# Altium footprint library Q's常用电子元件.PcbLib: 69 footprints (part 3 of 5)
Each footprint in its own frame and in the unit in brackets; x right, y up, seen from the top. Pads: shape width x height; smd on the part's side, far side on the other; paste and mask are expansions set on the pad; w line width, h text height; cw(c..) or ccw(c..) is an arc to the next point about the centre after c.
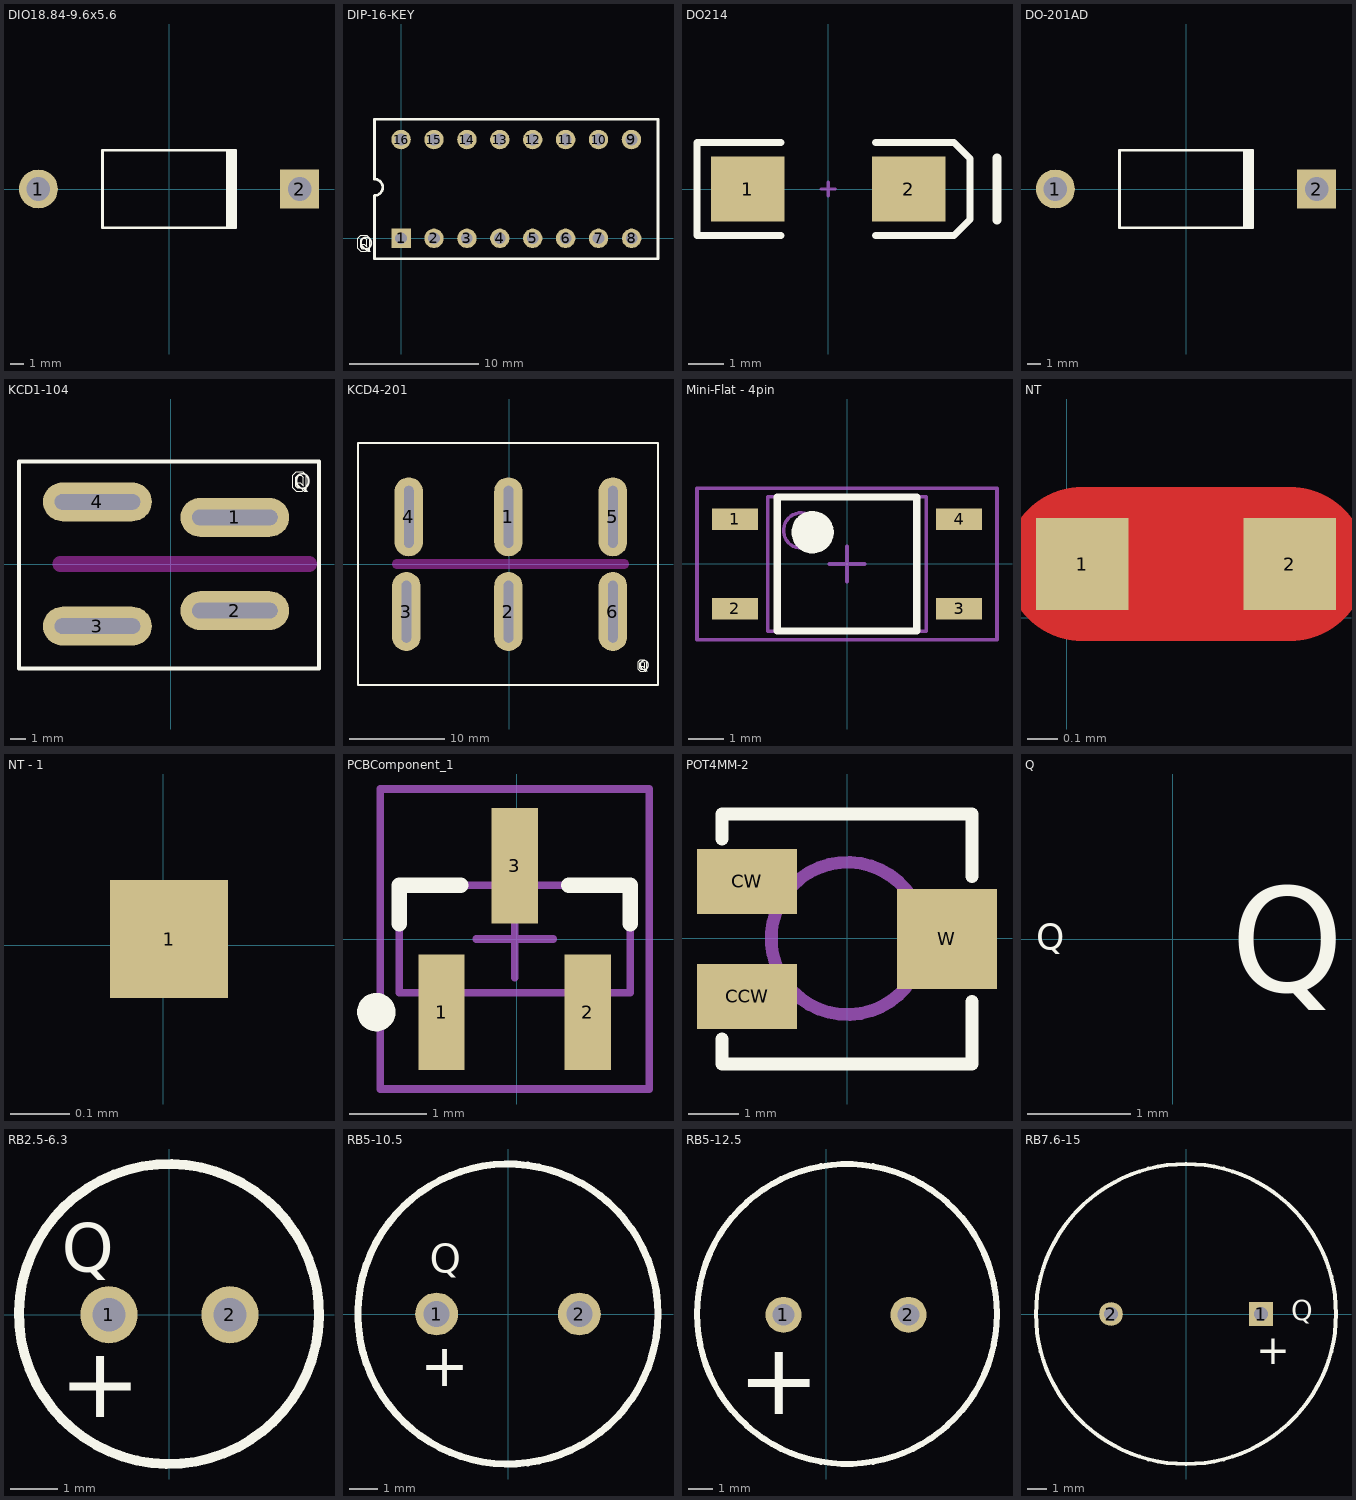
[diagram p2: the footprints below, top view; thin cyan lines are the x and y axes]

## DIO18.84-9.6x5.6 [mm] "Diode, Axial; Body 9.5 x 5.6 mm (LxDia. max), Lead Dia. 1.32 mm (max)"
height 5.6
pads (2):
  round 2.8 hole 1.7: 1(-9.42,0)
  rect 2.8x2.8 hole 1.7: 2(9.42,0)
Top Overlay:
  rectangle: 4.1,-2.8 4.9,2.8
  lines w0.2: 4.8,-2.8 -4.8,-2.8 -4.8,2.8 4.8,2.8

## DIP-16-KEY [mm]
pads (16):
  rect 1.5x1.5 hole 0.9: 1(-0.011,0.001)
  round 1.5 hole 0.9: 2(2.529,0.001) 3(5.069,0.001) 4(7.609,0.001) 5(10.149,0.001) 6(12.689,0.001) 7(15.229,0.001) 8(17.789,0.001) 9(17.769,7.621) 10(15.229,7.621) 11(12.689,7.621) 12(10.149,7.621) 13(7.609,7.621) 14(5.069,7.621) 15(2.529,7.621) 16(-0.011,7.621)
Top Overlay:
  lines w0.001: -2.977,-0.615 -2.588,-1.006 -2.586,-1.006 -2.522,-1.006 -2.446,-0.93 -2.446,-0.853 -2.471,-0.828 -2.471,-0.803 -2.446,-0.777 -2.446,0.01 -2.675,0.239 -3.106,0.239 -3.335,0.01 -3.335,-0.777 -3.106,-1.006 -2.708,-1.006 -2.649,-0.947 -2.807,-0.79 -3.03,-0.79 -3.132,-0.688 -3.132,-0.104 -3.005,0.023 -2.776,0.023 -2.649,-0.104 -2.649,-0.663 -2.852,-0.46 -2.954,-0.46 -3.005,-0.511 -3.005,-0.536 -3.005,-0.587 -2.977,-0.615 ; -2.977,-0.615 -2.977,-0.615
  lines w0.2: -2.061,4.571 cw(c-2.061,3.936) -2.061,3.301 -2.061,-1.589 19.819,-1.589 19.819,9.201 -2.061,9.201 -2.061,4.601
  text "Q" at -3.228,-0.881 h1.02
3D body: height 7.11, standoff 0, extent 17.272,1.524 18.288,3.556
3D body: height 6.48, standoff 0, extent 17.272,3.556 18.288,6.096
3D body: height 7.11, standoff 0, extent 12.192,1.524 13.208,3.556
3D body: height 6.48, standoff 0, extent 12.192,3.556 13.208,6.096
3D body: height 7.11, standoff 0, extent 9.652,1.524 10.668,3.556
3D body: height 6.48, standoff 0, extent 9.652,3.556 10.668,6.096
3D body: height 7.11, standoff 0, extent 2.032,1.524 3.048,3.556
3D body: height 6.48, standoff 0, extent 2.032,3.556 3.048,6.096
3D body: height 7.11, standoff 0, extent 14.732,4.064 15.748,6.096
3D body: height 6.48, standoff 0, extent 14.732,1.524 15.748,4.064
3D body: height 7.11, standoff 0, extent 7.112,4.064 8.128,6.096
3D body: height 6.48, standoff 0, extent 7.112,1.524 8.128,4.064
3D body: height 7.11, standoff 0, extent 4.572,4.064 5.588,6.096
3D body: height 6.48, standoff 0, extent 4.572,1.524 5.588,4.064
3D body: height 6.48, standoff 0, extent -0.508,1.524 0.508,4.064
3D body: height 7.11, standoff 0, extent -0.508,4.064 0.508,6.096
3D body: height 6.35, standoff 0, extent -2.032,-1.524 19.812,9.144
3D body: height 1.6, standoff 0, extent -3.336,-1.006 -2.446,0.239

## DO214 [mm] "DO-214-AC/SMA; 2 C-Bend Leads; Body 5.3 x 2.6 mm, inc. leads (LxW)"
height 2.3
pads (2):
  rect 2.1x1.85 smd: 1(-2.3,0) 2(2.3,0)
Top Overlay:
  lines w0.2: -1.35,-1.325 -3.75,-1.325 -3.75,1.325 -1.35,1.325 ; 1.35,-1.325 3.6,-1.325 4.05,-0.875 4.05,0.875 3.6,1.325 1.35,1.325
  lines w0.254: 4.826,-0.889 4.826,0.889
Mechanical 1:
  lines w0.1: -0.2,0 0.2,0 ; 0,-0.2 0,0.2

## DO-201AD [mm] "Diode, Axial; Body 9.5 x 5.6 mm (LxDia. max), Lead Dia. 1.32 mm (max)"
height 5.6
pads (2):
  round 2.8 hole 1.7: 1(-9.42,0)
  rect 2.8x2.8 hole 1.7: 2(9.42,0)
Top Overlay:
  rectangle: 4.1,-2.8 4.9,2.8
  lines w0.2: 4.8,-2.8 -4.8,-2.8 -4.8,2.8 4.8,2.8

## KCD1-104 [mm] "小，4脚2档带灯，6A 250V"
height 30
pads (4):
  oval 7x2.5 hole 1 slot 5.5 at 0 deg: 1(4.11,3) 2(4.11,-3) 3(-4.731,-4) 4(-4.731,4)
Top Overlay:
  lines w0.001: 8.182,5.078 8.57,4.687 8.573,4.687 8.637,4.687 8.713,4.763 8.713,4.839 8.687,4.864 8.687,4.89 8.713,4.915 8.713,5.703 8.484,5.931 8.052,5.931 7.824,5.703 7.824,4.915 8.052,4.687 8.451,4.687 8.51,4.745 8.352,4.902 8.129,4.902 8.027,5.004 8.027,5.588 8.154,5.715 8.383,5.715 8.51,5.588 8.51,5.029 8.306,5.233 8.205,5.233 8.154,5.182 8.154,5.156 8.154,5.106 8.182,5.078 ; 8.182,5.078 8.182,5.078
  lines w0.254: -9.779,-6.731 -9.779,6.604 9.525,6.604 9.525,-6.731 -9.525,-6.731 -9.779,-6.731
  text "Q" at 7.93,4.811 h1.02
Keep-Out Layer:
  lines w1: -7.112,0 8.89,0
3D body: height 18, standoff 0, extent -9.652,-6.477 9.271,6.477
3D body: height 21, standoff 0, extent -7.493,-4.572 6.858,4.572
3D body: height 19, standoff 0, extent 7.823,4.686 8.713,5.932

## KCD4-201 [mm] "大，4脚船型开关, 16A 250V"
height 30
pads (6):
  oval 3x8.3 hole 1 slot 6.5 at 90 deg: 1(-0.083,4.953) 2(-0.083,-4.997) 3(-10.795,-4.997) 4(-10.541,4.953) 5(10.883,4.953) 6(10.883,-4.997)
Top Overlay:
  lines w0.001: 13.884,-10.889 13.884,-10.889 ; 13.884,-10.889 13.856,-10.861 13.856,-10.81 13.856,-10.785 13.906,-10.734 14.008,-10.734 14.211,-10.937 14.211,-10.378 14.084,-10.251 13.856,-10.251 13.729,-10.378 13.729,-10.963 13.83,-11.064 14.054,-11.064 14.211,-11.222 14.153,-11.28 13.754,-11.28 13.525,-11.052 13.525,-10.264 13.754,-10.036 14.186,-10.036 14.414,-10.264 14.414,-11.052 14.389,-11.077 14.389,-11.102 14.414,-11.128 14.414,-11.204 14.338,-11.28 14.275,-11.28 14.272,-11.28 13.884,-10.889
  lines w0.254: -15.875,-12.7 15.621,-12.7 15.621,12.7 -15.367,12.7 -15.875,12.7 -15.875,-12.7
  text "Q" at 13.632,-11.156 h1.02
Keep-Out Layer:
  lines w1: -11.811,0 12.065,0
3D body: height 21, standoff 0, extent -10.795,-8.128 11.049,9.144
3D body: height 18, standoff 0, extent -15.367,-12.192 15.112,12.192
3D body: height 19, standoff 0, extent 13.525,-11.281 14.415,-10.035

## Mini-Flat - 4pin [mm] "光耦封装"
height 2.6
pads (4):
  rect 1.3x0.6 smd: 1(-3.175,1.27) 2(-3.175,-1.27) 3(3.175,-1.27) 4(3.175,1.27)
Top Overlay:
  circle w0.6: c-0.975,0.9 r0.3
  lines w0.203: -1.975,-1.9 -1.975,1.9 1.975,1.9 1.975,-1.9 -1.975,-1.9
Mechanical 13:
  circle w0.1: c-1.3,0.95 r0.5
  lines w0.1: -2.25,-1.9 -2.25,1.9 2.25,1.9 2.25,-1.9 -2.25,-1.9
Mechanical 15:
  lines w0.1: -0.5,0 0.5,0 ; 0,-0.5 0,0.5 ; -4.25,-2.15 -4.25,2.15 4.25,2.15 4.25,-2.15 -4.25,-2.15
3D body: height 2.6, standoff 0.2, extent -2.25,-1.9 2.25,1.9

## NT [mil]
pads (2):
  rect 12x12 smd: 1(2,7) 2(29,7)
Top Layer:
  lines w20: 2,7 29,7

## NT - 1 [mm]
pads (1):
  rect 0.2x0.2 smd: 1(0.01,0.011)

## PCBComponent_1 [mm]
pads (3):
  rect 0.6x1.5 smd: 1(-0.975,-0.95) 2(0.925,-0.95) 3(-0.025,0.95)
Top Overlay:
  circle w0.25: c-1.825,-0.95 r0.125
  lines w0.2: -1.525,0.2 -1.525,0.7 -0.725,0.7 ; 0.675,0.7 1.475,0.7 1.475,0.2
Mechanical 13:
  lines w0.1: -1.525,-0.7 -1.525,0.7 1.475,0.7 1.475,-0.7 -1.525,-0.7
Mechanical 15:
  lines w0.1: -0.525,0 0.475,0 ; -0.025,-0.5 -0.025,0.5 ; -1.775,-1.95 -1.775,1.95 1.725,1.95 1.725,-1.95 -1.775,-1.95
3D body: height 1.12, standoff 0, extent -1.525,-0.7 1.475,0.7

## POT4MM-2 [mm]
pads (3):
  rect 2x1.3 smd: CCW(-2.008,-1.162) CW(-2.008,1.138)
  rect 2x2 smd: W(1.992,-0.012)
Top Overlay:
  lines w0.254: -2.508,-2.012 -2.508,-2.512 2.492,-2.512 2.492,-1.262 ; -2.508,1.988 -2.508,2.488 2.492,2.488 2.492,1.238
Mechanical 2:
  circle w0.254: c0,0 r1.524
3D body: height 3.05, standoff 0, extent -1.519,0.132 1.519,1.532
3D body: height 3.05, standoff 0, extent -1.519,-1.532 1.519,-0.132
3D body: height 0.64, standoff 0, extent 1.143,-0.889 2.921,0.889
3D body: height 0.64, standoff 0, extent -2.921,-1.651 -1.143,-0.635
3D body: height 0.64, standoff 0, extent -2.921,0.635 -1.143,1.651
3D body: height 2.54, standoff 0, extent -2.54,-2.413 2.54,2.413
3D body: height 2.67, standoff 0, extent -1.449,-1.449 1.449,1.449

## Q [mm]
Top Overlay:
  text "Q" at -1.321,-0.102 h0.25
  text "Q" at 0.559,-0.508 h1.02
3D body: height 0.6, standoff 0, extent -1.352,-0.125 -1.13,0.181
3D body: height 1.6, standoff 0, extent 0.444,-0.613 1.334,0.633

## RB2.5-6.3 [mm]
pads (2):
  round 1.2 hole 0.7: 1(-1.27,0) 2(1.27,0)
Top Overlay:
  lines w0.203: 2.921,1.168 ccw(c-0.01,0.014) 2.922,1.167
  text "+" at -2.315,-2.151 h1.5
  text "Q" at -2.258,0.901 h1.02
3D body: height 1.6, standoff 0, extent -2.236,0.697 -1.346,1.943

## RB5-10.5 [mm]
pads (2):
  round 1.5 hole 0.9: 1(-2.5,0) 2(2.5,0)
Top Overlay:
  circle w0.25: c0,0 r5.25
  text "Q" at -2.743,1.448 h1.02
  text "+" at -3.077,-2.532 h1.5
3D body: height 1.6, standoff 0, extent -2.87,1.308 -1.98,2.553

## RB5-12.5 [mm]
pads (2):
  round 1.5 hole 0.9: 1(-1.778,-14.351) 2(3.429,-14.351)
Top Overlay:
  circle w0.254: c0.868,-14.318 r6.25
  text "+" at -3.685,-18.486 h3

## RB7.6-15 [mm]
pads (2):
  rect 1.2x1.2 hole 0.7: 1(3.81,0)
  round 1.2 hole 0.7: 2(-3.81,0)
Top Overlay:
  circle w0.2: c0,0 r7.62
  text "+" at 3.556,-2.54 h1.5
  text "Q" at 5.334,-0.305 h1.02
3D body: height 1.6, standoff 0, extent 5.143,-0.486 6.033,0.76